# Altium schematic symbol library PB SPST.Schlib: 1 symbol
Pins are listed as number, name and electrical type; pins without a type are passive.

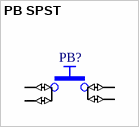
[diagram p0: symbol PB SPST]

## PB SPST
designator PB?
Push-Button Switch SPST
footprint PB-5x5x1.5mm (low profile tactile switch)
pins: 1 (io), 2 (io), 3 (io), 4 (io)